# Altium schematic symbol library TLV62568DBVR.SchLib: 1 symbol
Pins are listed as number, name and electrical type; pins without a type are passive.

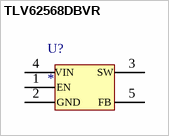
[diagram p0: symbol TLV62568DBVR]

## TLV62568DBVR
designator U?
footprint *SOT95P280X145-5N
pins: 1, 2, 3, 4, 5
text: VIN; SW; EN; GND; FB